# EAGLE library part NAV-SWITCH-TSWB-3N-CB (library openct)
C&K TSWB3NCB 4-way Navigation Switch w/Scroll wheel and Select Switch
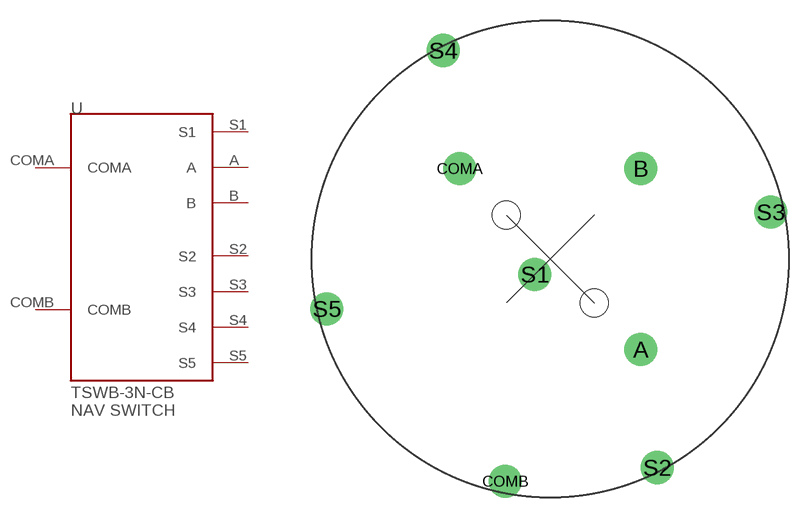
[diagram p8: symbol with the pads of TSWB-3N-CB; footprint TSWB-3N-CB]

Designator prefix -

## NAV-SWITCH-TSWB-3N-CB  [TSWB-3N-CB]
A  A
B  B
COMA  COMA
COMB  COMB
S1  S1
S2  S2
S3  S3
S4  S4
S5  S5

## Footprint TSWB-3N-CB (pad centres in mm)
drill 1.6: A 6.548,-6.548; B 6.548,6.548; COMA -6.548,6.548; COMB -3.253,-16.087; S1 -1.11,-1.11; S2 7.743,-15.097; S3 15.945,3.394; S4 -7.743,15.097; S5 -16.157,-3.606
hole 2 at -3.182,3.182
hole 2 at 3.182,-3.182